# Altium footprint library PCB1.PcbLib: 19 footprints (part 1 of 2)
Each footprint in its own frame and in the unit in brackets; x right, y up, seen from the top. Pads: shape width x height; smd on the part's side, far side on the other; paste and mask are expansions set on the pad; w line width, h text height; cw(c..) or ccw(c..) is an arc to the next point about the centre after c.
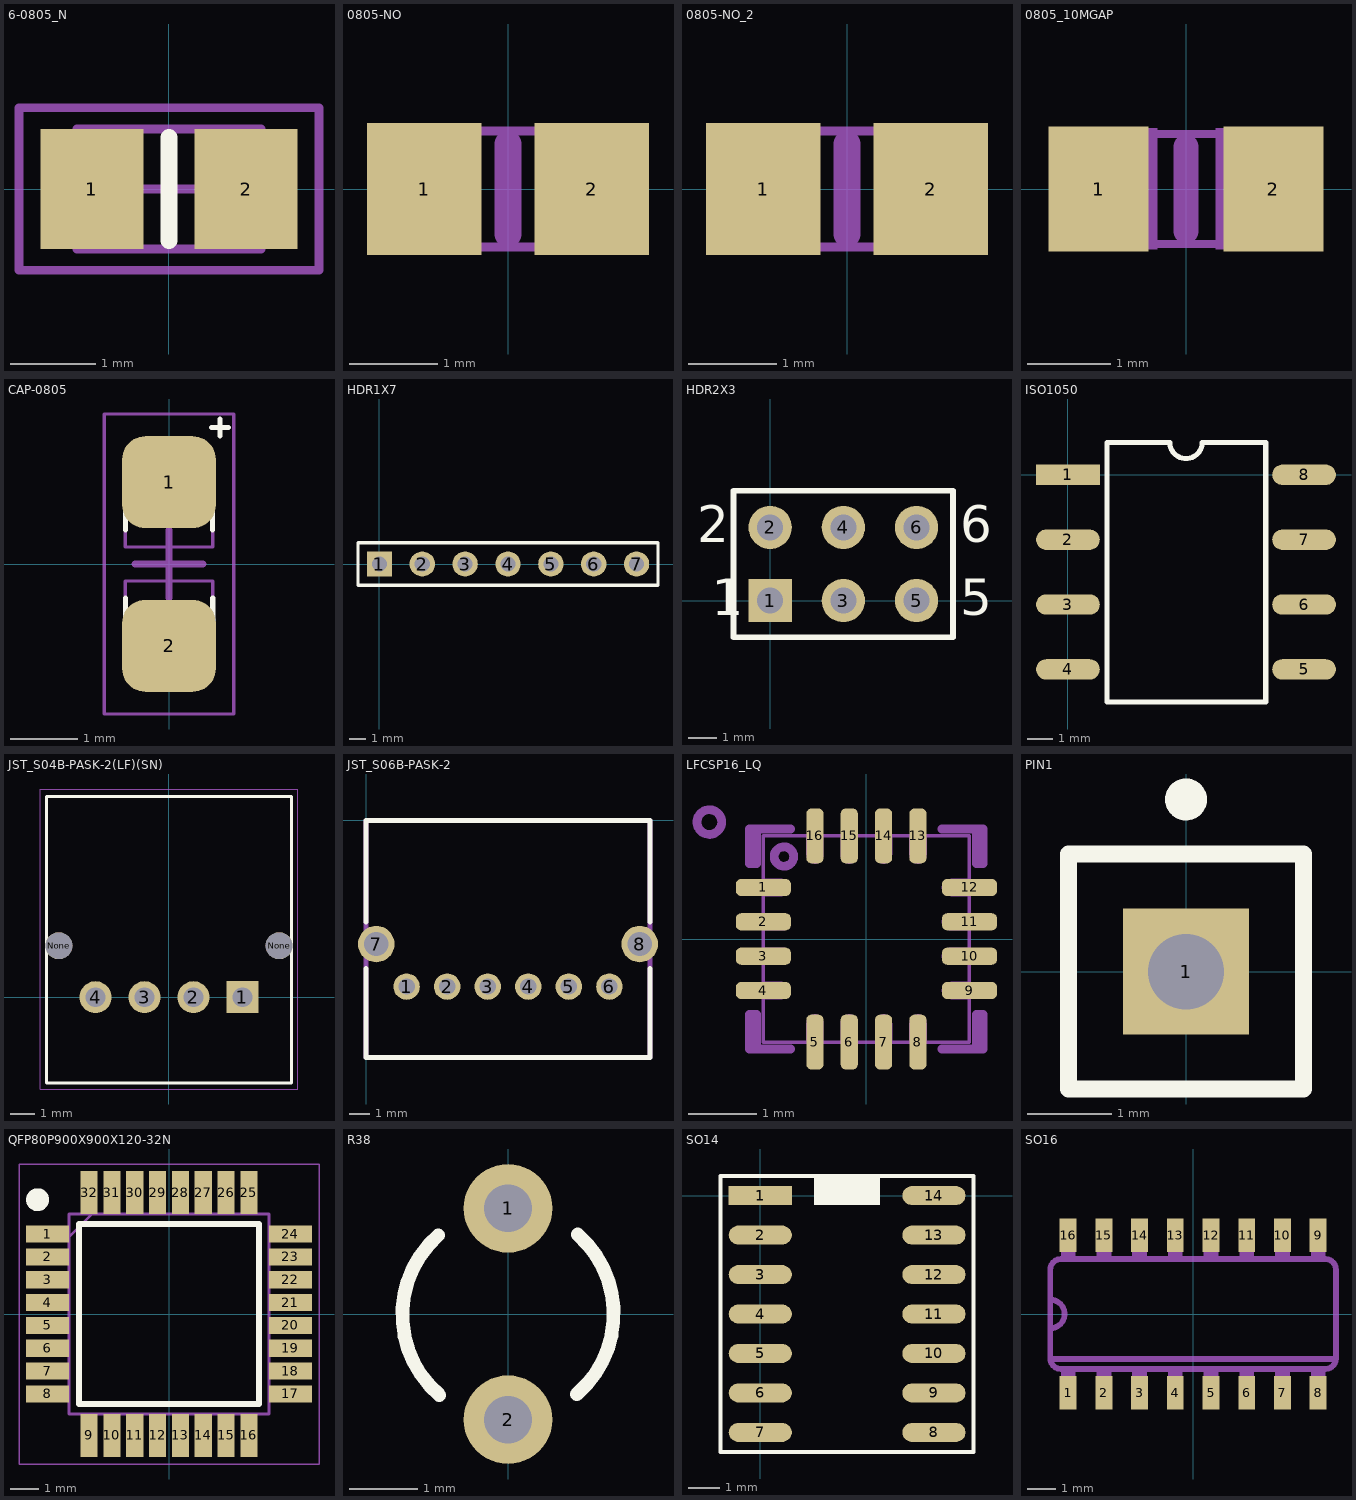
[diagram p0: the footprints below, top view; thin cyan lines are the x and y axes]

## 6-0805_N [mm] "Chip Resistor, Body 2.0x1.2mm, IPC Medium Density"
height 0.7
pads (2):
  rect 1.2x1.4 smd: 1(-0.9,0) 2(0.9,0)
Top Overlay:
  lines w0.2: 0,-0.6 0,0.6
Mechanical 13:
  lines w0.1: -1.075,-0.7 1.075,-0.7 1.075,0.7 -1.075,0.7 -1.075,-0.7
Mechanical 15:
  lines w0.1: -0.5,0 0.5,0 ; 0,-0.5 0,0.5 ; -1.75,-0.95 1.75,-0.95 1.75,0.95 -1.75,0.95 -1.75,-0.95
3D body: height 0.7, standoff 0, extent -1.075,-0.7 1.075,0.7

## 0805-NO [mm]
pads (2):
  rect 1.3x1.5 smd: 1(-0.95,0) 2(0.95,0)
Mechanical 8:
  region: 0.356,-0.724 0.356,0.726 1.106,0.726 1.106,-0.724
  region: -1.092,-0.724 -1.092,0.726 -0.342,0.726 -0.342,-0.724
  lines w0.102: -0.381,0.66 0.381,0.66 ; -0.356,-0.66 0.381,-0.66
Mechanical 16:
  lines w0.305: 0,-0.508 0,0.508
3D body "0805.step": height 0.73, standoff -0.03, extent -1,-0.665 1,0.645

## 0805-NO_2 [mm]
pads (2):
  rect 1.3x1.5 smd: 1(-0.95,0) 2(0.95,0)
Mechanical 8:
  region: -1.092,-0.724 -1.092,0.726 -0.342,0.726 -0.342,-0.724
  region: 0.356,-0.724 0.356,0.726 1.106,0.726 1.106,-0.724
  lines w0.102: -0.381,0.66 0.381,0.66 ; -0.356,-0.66 0.381,-0.66
Mechanical 16:
  lines w0.305: 0,-0.508 0,0.508
3D body "0805.step": height 0.73, standoff -0.03, extent -1,-0.665 1,0.645

## 0805_10MGAP [mm]
pads (2):
  rect 1.2x1.5 smd: 1(-1.05,0) 2(1.05,0)
Mechanical 8:
  region: 0.356,-0.724 0.356,0.726 1.106,0.726 1.106,-0.724
  region: -1.092,-0.724 -1.092,0.726 -0.342,0.726 -0.342,-0.724
  lines w0.102: -0.381,0.66 0.381,0.66 ; -0.356,-0.66 0.381,-0.66
Mechanical 16:
  lines w0.305: 0,-0.508 0,0.508
3D body "0805.step": height 0.73, standoff -0.03, extent -1,-0.665 1,0.645

## CAP-0805 [mil]
pads (2):
  rrect50% 55x54 smd: 1(0,48) 2(0,-48)
Top Overlay:
  lines w3: -25.59,20 -25.59,32.8 -18.39,40 18.39,40 25.59,32.8 25.59,20 ; -25.49,-20 -25.49,-40 25.69,-40 25.69,-20 ; 25,80 35,80 ; 30,75 30,85
Mechanical 1:
  lines w1.97: -25.6,-40.01 -25.6,-10.01 25.58,-10.01 25.58,-40.01 -25.6,-40.01 ; -25.59,10 -25.59,40 25.59,40 25.59,10 -25.59,10
Mechanical 15:
  lines w1.97: -38,-88 -38,88 38,88 38,-88 -38,-88
  lines w3.94: -20,0 0,0 ; 0,-20 0,0 ; 0,20 0,0 ; 20,0 0,0
3D body: height 21.65, standoff 0, extent -25.59,20 25.59,40
3D body: height 21.65, standoff 0, extent -25.59,-20 25.59,20
3D body: height 21.65, standoff 0, extent -25.59,-40 25.59,-20

## HDR1X7 [mm] "Connector; Header; 7 Position"
pads (7):
  rect 1.5x1.5 hole 0.9: 1(0,0)
  round 1.5 hole 0.9: 2(2.54,0) 3(5.08,0) 4(7.62,0) 5(10.16,0) 6(12.7,0) 7(15.24,0)
Top Overlay:
  lines w0.2: -1.27,-1.27 -1.27,1.27 16.51,1.27 16.51,-1.27 -1.27,-1.27

## HDR2X3 [mm] "Connector; Header; 3x2 Position"
pads (6):
  rect 1.5x1.5 hole 0.9: 1(0,0)
  round 1.5 hole 0.9: 2(0,2.54) 3(2.54,0) 4(2.54,2.54) 5(5.08,0) 6(5.08,2.54)
Top Overlay:
  lines w0.2: 1.482,-1.27 6.35,-1.27 ; 6.35,-1.27 6.35,3.81 -1.27,3.81 -1.27,-1.27 6.35,-1.27
  text "6" at 6.604,2.032 h1.27
  text "5" at 6.604,-0.508 h1.27
  text "2" at -2.54,2.032 h1.27
  text "1" at -2.032,-0.508 h1.27

## ISO1050 [mm] "ISO1050 Isolated Can Transceiver"
pads (8):
  rect 2.5x0.8 smd: 1(0,0)
  oval 2.5x0.8 smd: 2(0,-2.54) 3(0,-5.08) 4(0,-7.62) 5(9.25,-7.62) 6(9.25,-5.08) 7(9.25,-2.54) 8(9.25,0)
Top Overlay:
  lines w0.2: 1.524,-8.89 7.747,-8.89 7.747,1.27 5.26,1.27 cw(c4.625,1.27) 3.99,1.27 1.524,1.27 1.524,-8.89
3D body: height 5.08, standoff 0, extent 1.5,-8.9 7.7,1.3

## JST_S04B-PASK-2(LF)(SN) [mm]
pads (6):
  rect 1.308x1.308 hole 0.8: 1(3,0)
  round 1.308 hole 0.8: 2(1,0) 3(-1,0) 4(-3,0)
  round 1.1 hole 1.1 unplated: None(-4.5,2.1) None(4.5,2.1)
Top Overlay:
  lines w0.127: -5,-3.5 -5,8.2 5,8.2 5,-3.5 -5,-3.5
Mechanical 4:
  lines w0.05: -5.25,-3.75 5.25,-3.75 5.25,8.5 -5.25,8.5 -5.25,-3.75
3D body "S04B-PASK-2.STEP": height 6.5, standoff -3.4, extent -4.928,-3.539 5.072,8.161

## JST_S06B-PASK-2 [mm]
pads (8):
  round 1.3 hole 0.8: 1(2,-8.2) 2(4,-8.2) 3(6,-8.2) 4(8,-8.2) 5(10,-8.2) 6(12,-8.2)
  round 1.8 hole 1.2: 7(0.5,-6.1) 8(13.5,-6.1)
Top Overlay:
  lines w0.254: 0,-7.3 0,-11.7 14,-11.7 14,-7.3 ; 0,-5 0,0 14,0 14,-5
Mechanical 15:
  lines w0.254: 0,-11.7 14,-11.7 14,0 0,0 0,-11.7
3D body "S06B-PASK-2.STEP": height 6.5, standoff -3.4, extent 0.051,-11.678 14.051,0.022

## LFCSP16_LQ [mil] "LFCSP16_LQ"
pads (16):
  rrect60% 31.5x9.84 smd: 1(-59.07,29.53) 2(-59.07,9.84) 3(-59.07,-9.84) 4(-59.07,-29.53) 9(59.07,-29.53) 10(59.07,-9.84) 11(59.07,9.84) 12(59.07,29.53)
  rrect60% 9.84x31.5 smd: 5(-29.53,-59.07) 6(-9.84,-59.07) 7(9.84,-59.07) 8(29.53,-59.07) 13(29.53,59.07) 14(9.84,59.07) 15(-9.84,59.07) 16(-29.53,59.07)
Top Paste:
  region: -31.5,-31.5 -31.5,31.5 31.5,31.5 31.5,-31.5
Top Solder:
  region: -39.37,-39.37 -39.37,39.37 39.37,39.37 39.37,-39.37
Mechanical 8:
  circle w4.92: c-29.53,-48.03 r2.46
  circle w4.92: c-48.03,-9.84 r2.46
  circle w4.92: c-48.03,-29.53 r2.46
  circle w4.92: c-48.03,9.84 r2.46
  circle w4.92: c9.84,-48.03 r2.46
  circle w4.92: c-9.84,-48.03 r2.46
  circle w5: c-47.24,47.24 r5.57
  circle w4.92: c-48.03,29.53 r2.46
  circle w4.92: c9.84,48.03 r2.46
  circle w4.92: c-29.53,48.03 r2.46
  circle w4.92: c-9.84,48.03 r2.46
  circle w4.92: c29.53,-48.03 r2.46
  circle w4.92: c48.03,9.84 r2.46
  circle w4.92: c48.03,-29.53 r2.46
  circle w4.92: c48.03,-9.84 r2.46
  circle w4.92: c29.53,48.03 r2.46
  circle w4.92: c48.03,29.53 r2.46
  region: -59.06,-14.76 -59.06,-4.92 -48.23,-4.92 -48.23,-14.76
  region: -59.06,-34.45 -59.06,-24.61 -48.23,-24.61 -48.23,-34.45
  region: -59.06,4.92 -59.06,14.76 -48.23,14.76 -48.23,4.92
  region: -24.61,-59.05 -34.45,-59.05 -34.45,-48.23 -24.61,-48.23
  region: -4.92,-59.05 -14.77,-59.05 -14.77,-48.23 -4.92,-48.23
  region: -59.06,24.61 -59.06,34.45 -48.23,34.45 -48.23,24.61
  region: -34.45,59.05 -24.61,59.05 -24.61,48.23 -34.45,48.23
  region: -14.77,59.05 -4.92,59.05 -4.92,48.23 -14.77,48.23
  region: 14.77,-59.05 4.92,-59.05 4.92,-48.23 14.77,-48.23
  region: 34.45,-59.05 24.61,-59.05 24.61,-48.23 34.45,-48.23
  region: 59.06,-24.61 59.06,-34.45 48.23,-34.45 48.23,-24.61
  region: 59.06,-4.92 59.06,-14.76 48.23,-14.76 48.23,-4.92
  region: 59.06,14.76 59.06,4.92 48.23,4.92 48.23,14.76
  region: 24.61,59.05 34.45,59.05 34.45,48.23 24.61,48.23
  region: 4.92,59.05 14.77,59.05 14.77,48.23 4.92,48.23
  region: 59.06,34.45 59.06,24.61 48.23,24.61 48.23,34.45
  lines w2: -59.06,-59.06 -59.06,59.06 59.06,59.06 59.06,-59.06 -59.06,-59.06
Mechanical 16:
  circle w5: c-90,67 r7.07
  lines w5: -43.31,-62.99 -62.99,-62.99 ; -43.31,62.99 -62.99,62.99 ; 43.31,-62.99 62.99,-62.99 ; 43.31,62.99 62.99,62.99 ; -62.99,-62.99 -66.93,-62.99 -66.93,-43.31 -62.99,-43.31 -62.99,-62.99 ; -62.99,62.99 -62.99,43.31 -66.93,43.31 -66.93,62.99 -62.99,62.99 ; 62.99,-62.99 62.99,-43.31 66.93,-43.31 66.93,-62.99 62.99,-62.99 ; 62.99,62.99 62.99,43.31 66.93,43.31 66.93,62.99 62.99,62.99
3D body "ADXL377_LFCSP-16_3x3.step": height 38.19, standoff -1.18, extent -60.44,-58.17 58.45,60.73

## PIN1 [mm] "Connector; Plug"
pads (1):
  rect 1.5x1.5 hole 0.9: 1(0,0)
Top Overlay:
  circle w0.25: c0,2.05 r0.125
  lines w0.2: -1.4,-1.4 -1.4,1.4 1.4,1.4 1.4,-1.4 -1.4,-1.4

## QFP80P900X900X120-32N [mm]
pads (32):
  rect 1.5x0.6 smd: 1(-4.25,2.8) 2(-4.25,2) 3(-4.25,1.2) 4(-4.25,0.4) 5(-4.25,-0.4) 6(-4.25,-1.2) 7(-4.25,-2) 8(-4.25,-2.8) 17(4.25,-2.8) 18(4.25,-2) 19(4.25,-1.2) 20(4.25,-0.4) 21(4.25,0.4) 22(4.25,1.2) 23(4.25,2) 24(4.25,2.8)
  rect 0.6x1.5 smd: 9(-2.8,-4.25) 10(-2,-4.25) 11(-1.2,-4.25) 12(-0.4,-4.25) 13(0.4,-4.25) 14(1.2,-4.25) 15(2,-4.25) 16(2.8,-4.25) 25(2.8,4.25) 26(2,4.25) 27(1.2,4.25) 28(0.4,4.25) 29(-0.4,4.25) 30(-1.2,4.25) 31(-2,4.25) 32(-2.8,4.25)
Top Overlay:
  circle w0.4: c-4.6,4 r0.2
  lines w0.2: -3.15,-3.15 -3.15,3.15 3.15,3.15 3.15,-3.15 -3.15,-3.15
Mechanical 15:
  lines w0.1: -3.5,2.7 -2.7,3.5 ; -3.5,-3.5 3.5,-3.5 3.5,3.5 -3.5,3.5 -3.5,-3.5
Mechanical 16:
  lines w0.05: -5.25,-5.25 5.25,-5.25 5.25,5.25 -5.25,5.25 -5.25,-5.25
3D body "atmega8 (tqfp32).step": height 1.13, standoff 0.03, extent -4.87,-4.73 4.73,4.87

## R38 [mm] "Crystal, Thru-Hole; 2 Leads; Body 3.1 x 8.2 mm (Dia.xH)"
height 8.2
pads (2):
  round 1.3 hole 0.7: 1(0,1.55) 2(0,-1.55)
Top Overlay:
  lines w0.2: -1.022,1.155 ccw(c0,-0.01) -1.006,-1.189 ; 1.006,-1.179 ccw(c0,0) 1.022,1.165

## SO14 [mil]
pads (14):
  rect 80x24 smd: 1(0,0)
  oval 80x24 smd: 2(0,-50) 3(0,-100) 4(0,-150) 5(0,-200) 6(0,-250) 7(0,-300) 8(220,-300) 9(220,-250) 10(220,-200) 11(220,-150) 12(220,-100) 13(220,-50) 14(220,0)
Top Overlay:
  rectangle: 67.99,-12 151.99,26
  lines w5: -50.12,-325.02 269.88,-325.02 269.88,24.98 -50.12,24.98 -50.12,-325.02
3D body: height 20, standoff 0, extent 213,-307 240,-292
3D body: height 35, standoff 15, extent 194,-257 226.5,-242
3D body: height 35, standoff 15, extent 194,-307 226.5,-292
3D body: height 20, standoff 0, extent 213,-257 240,-242
3D body: height 20, standoff 0, extent 213,-157 240,-142
3D body: height 20, standoff 0, extent 213,-207 240,-192
3D body: height 35, standoff 15, extent 194,-207 226.5,-192
3D body: height 35, standoff 15, extent -6.5,-158 26,-143
3D body: height 35, standoff 15, extent 194,-157 226.5,-142
3D body: height 35, standoff 15, extent -6.5,-308 26,-293
3D body: height 20, standoff 0, extent -20,-308 7,-293
3D body: height 20, standoff 0, extent -20,-258 7,-243
3D body: height 35, standoff 15, extent -6.5,-258 26,-243
3D body: height 35, standoff 15, extent -6.5,-208 26,-193
3D body: height 20, standoff 0, extent -20,-208 7,-193
3D body: height 20, standoff 0, extent -20,-158 7,-143
3D body: height 20, standoff 0, extent 213,-107 240,-92
3D body: height 35, standoff 15, extent 194,-57 226.5,-42
3D body: height 35, standoff 15, extent 194,-107 226.5,-92
3D body: height 20, standoff 0, extent 213,-57 240,-42
3D body: height 20, standoff 0, extent 213,-7 240,8
3D body: height 35, standoff 15, extent 194,-7 226.5,8
3D body: height 61, standoff 60, extent 68,-12 152,22
3D body: height 61, standoff 60, extent 36,-9 55.92,10.96
3D body: height 60, standoff 10, extent 25,-325 195,25
3D body: height 35, standoff 15, extent -6.5,-108 26,-93
3D body: height 20, standoff 0, extent -20,-108 7,-93
3D body: height 35, standoff 15, extent -6.5,-58 26,-43
3D body: height 35, standoff 15, extent -6.5,-8 26,7
3D body: height 20, standoff 0, extent -20,-58 7,-43
3D body: height 20, standoff 0, extent -20,-8 7,7

## SO16 [mm] "SO16"
pads (16):
  rect 0.6x1.2 smd: 1(-4.445,-2.8) 2(-3.175,-2.8) 3(-1.905,-2.8) 4(-0.635,-2.8) 5(0.635,-2.8) 6(1.905,-2.8) 7(3.175,-2.8) 8(4.445,-2.8) 9(4.445,2.8) 10(3.175,2.8) 11(1.905,2.8) 12(0.635,2.8) 13(-0.635,2.8) 14(-1.905,2.8) 15(-3.175,2.8) 16(-4.445,2.8)
Mechanical 8:
  region: -4.699,1.956 -4.699,3.099 -4.191,3.099 -4.191,1.956
  region: -3.429,1.956 -3.429,3.099 -2.921,3.099 -2.921,1.956
  region: -2.159,1.956 -2.159,3.099 -1.651,3.099 -1.651,1.956
  region: -0.889,1.956 -0.889,3.099 -0.381,3.099 -0.381,1.956
  region: 0.381,1.956 0.381,3.099 0.889,3.099 0.889,1.956
  region: 1.651,1.956 1.651,3.099 2.159,3.099 2.159,1.956
  region: 2.921,1.956 2.921,3.099 3.429,3.099 3.429,1.956
  region: 4.191,1.956 4.191,3.099 4.699,3.099 4.699,1.956
  region: -4.699,-3.099 -4.699,-1.956 -4.191,-1.956 -4.191,-3.099
  region: -3.429,-3.099 -3.429,-1.956 -2.921,-1.956 -2.921,-3.099
  region: -2.159,-3.073 -2.159,-1.93 -1.651,-1.93 -1.651,-3.073
  region: 0.381,-3.099 0.381,-1.956 0.889,-1.956 0.889,-3.099
  region: -0.889,-3.099 -0.889,-1.956 -0.381,-1.956 -0.381,-3.099
  region: 2.921,-3.099 2.921,-1.956 3.429,-1.956 3.429,-3.099
  region: 1.651,-3.099 1.651,-1.956 2.159,-1.956 2.159,-3.099
  region: 4.191,-3.099 4.191,-1.956 4.699,-1.956 4.699,-3.099
Mechanical 16:
  lines w0.203: -5.08,-1.6 5.08,-1.6 ; -5.08,-0.508 ccw(c-5.08,0) -5.08,0.508 ; -5.08,-0.508 -5.08,0.508 ; -5.08,-0.508 -5.08,-1.575 ccw(c-4.699,-1.575) -4.699,-1.956 4.699,-1.956 ccw(c4.699,-1.575) 5.08,-1.575 5.08,1.575 ccw(c4.699,1.575) 4.699,1.956 -4.699,1.956 ccw(c-4.699,1.575) -5.08,1.575 -5.08,0.508
3D body "HX711_SOP16.stp": height 1.52, standoff -0.04, extent -4.98,-3.341 5.02,3.359